# EAGLE library part MC100EPT25DG (library ON Semiconductor_By_element14_Batch_1)
-3.3V / -5V Differential ECL to +3.3V LVTTL Translator
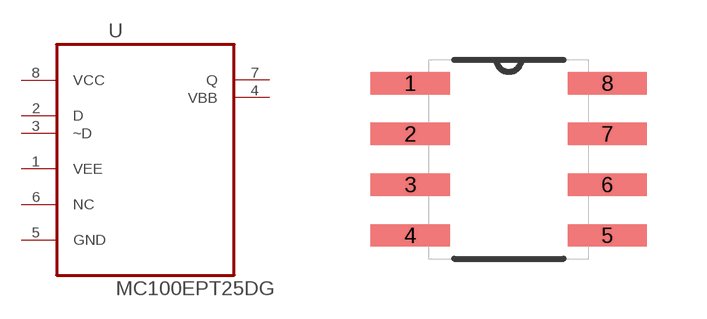
[diagram p135: symbol with the pads of SOIC127P600X175-8N; footprint SOIC127P600X175-8N]

Designator prefix U

## MC100EPT25DG (MPN: MC100EPT25DG; OC_FARNELL: 1607873; OC_NEWARK: 45J0933; P1I: o; PACKAGE: SOIC-8; SUPPLIER: Onsemiconductor)  [SOIC127P600X175-8N]
1  VEE  pwr
2  D  in
3  ~D  in
4  VBB  out
5  GND  pas
6  NC  nc
7  Q  out
8  VCC  pwr

## Footprint SOIC127P600X175-8N (pad centres in mm)
smd 1.981 x 0.559: 1 -2.464,1.905; 2 -2.464,0.635; 3 -2.464,-0.635; 4 -2.464,-1.905; 5 2.464,-1.905; 6 2.464,-0.635; 7 2.464,0.635; 8 2.464,1.905